# EAGLE library part UBO_PQ60_TPS22960DCNR (library EPS)
LOW INPUT VOLTAGE, DUAL LOAD SWITCH WITH CONTROLLED TURN-ON
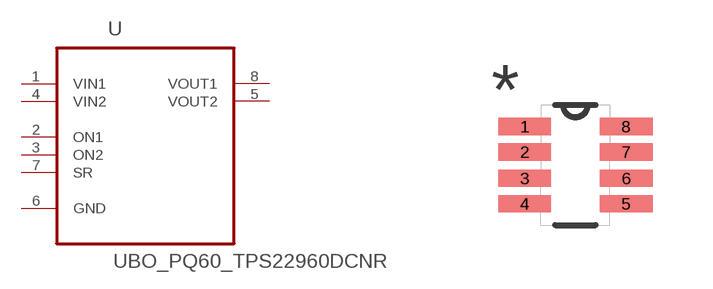
[diagram p11: symbol with the pads of UBO_PQ60_SOT65P280X145-8N; footprint UBO_PQ60_SOT65P280X145-8N]

Designator prefix U

## UBO_PQ60_TPS22960DCNR (MPN: TPS22960DCNR; OC_FARNELL: 1735581; OC_NEWARK: 10R1440; PACKAGE: SOT-23-8; SUPPLIER: TEXAS INSTRUMENTS)  [UBO_PQ60_SOT65P280X145-8N]
1  VIN1  pwr
2  ON1  in
3  ON2  in
4  VIN2  pwr
5  VOUT2  out
6  GND  pas
7  SR  in
8  VOUT1  out

## Footprint UBO_PQ60_SOT65P280X145-8N (pad centres in mm)
smd 1.321 x 0.432: 1 -1.27,0.965; 2 -1.27,0.33; 3 -1.27,-0.33; 4 -1.27,-0.965; 5 1.27,-0.965; 6 1.27,-0.33; 7 1.27,0.33; 8 1.27,0.965